# Altium schematic symbol library TAA5242IRGER.SchLib: 1 symbol
Pins are listed as number, name and electrical type; pins without a type are passive.

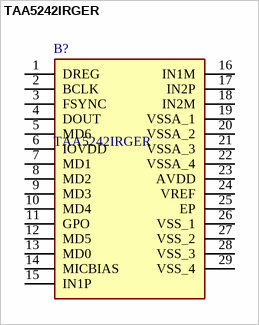
[diagram p0: symbol TAA5242IRGER]

## TAA5242IRGER
designator B?
Stereo Audio 16 b, 20 b, 24 b, 32 b DSP, I2C, I2S, Serial, TDM 24-VQFN (4x4) , -40C ~ 125C (TA); Manufacturer_Name: Texas Instruments; Geometry.Height: 1mm; Manufacturer_Part_Number: TAA5242IRGER; Mouser Part Number: *; Mouser Price/Stock: *; Arrow Part Number: TAA5242IRGER; Arrow Price/Stock: https://www.arrow.com/en/products/taa5242irger/texas-instruments?utm_currency=USD&region=nac; Datasheet Link: https://www.ti.com/lit/ds/symlink/taa5242.pdf?HQS=ti-null-null-sf-df-pf-sep-wwe&ts=1741314911989&ref_url=https%253A%252F%252Fcomponentsearchengine.com%252F
footprint TAA5242IRGER
pins: 1 DREG, 2 BCLK, 3 FSYNC, 4 DOUT, 5 MD6, 6 IOVDD, 7 MD1, 8 MD2, 9 MD3, 10 MD4, 11 GPO, 12 MD5, 13 MD0, 14 MICBIAS, 15 IN1P, 16 IN1M, 17 IN2P, 18 IN2M, 19 VSSA_1, 20 VSSA_2, 21 VSSA_3, 22 VSSA_4, 23 AVDD, 24 VREF, 25 EP, 26 VSS_1, 27 VSS_2, 28 VSS_3, 29 VSS_4